# Altium schematic symbol library tm4cv006lib.SchLib: 203 symbols (part 1 of 5)
Pins are listed as number, name and electrical type; pins without a type are passive.

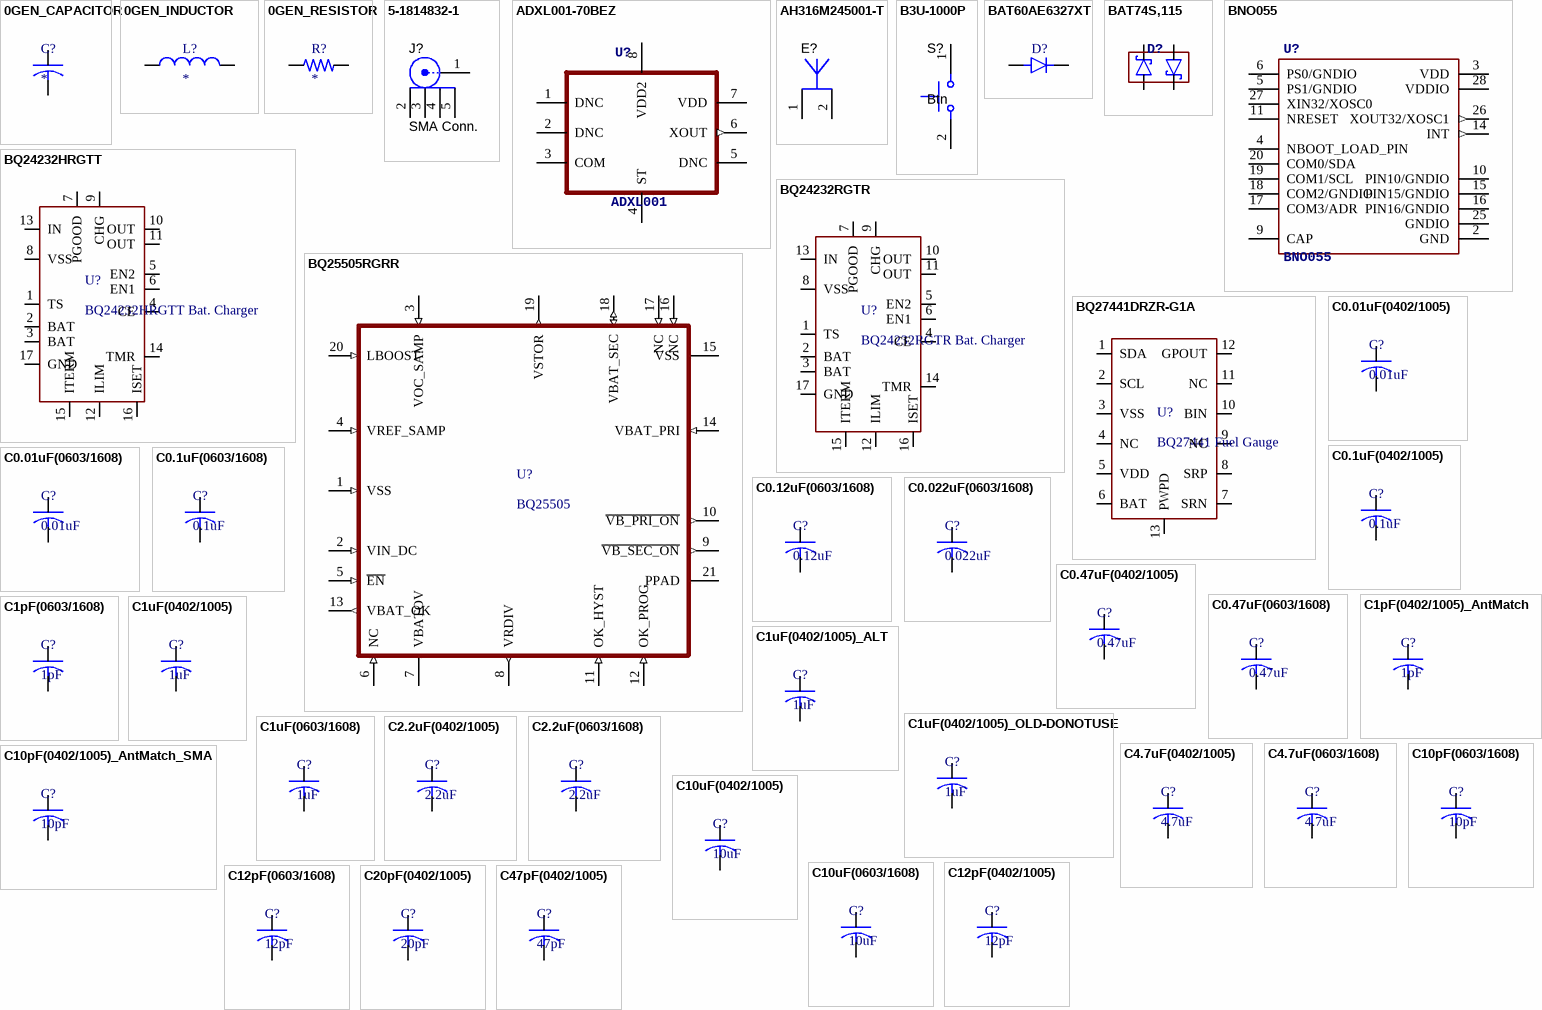
[diagram p0: symbols 0GEN_CAPACITOR to C47pF(0402/1005)]

## 0GEN_CAPACITOR
designator C?
Capacitor
footprint C0603_1608 (Chip Capacitor, 2-Leads, Body 1.60x0.80mm, IPC Medium Density)
pins: 1, 2

## 0GEN_INDUCTOR
designator L?
Inductor
footprint L1008_2520 (Chip Inductor, 2-Leads, Body 2.50x2.00mm, IPC Medium Density)
pins: 1, 2

## 0GEN_RESISTOR
designator R?
Resistor
footprint R0603_1608 (Chip Resistor, 2-Leads, Body 1.60x0.80mm, IPC Medium Density)
pins: 1, 2

## 5-1814832-1
designator J?, comment SMA Conn.
SMA Straight PCB Socket Die Cast, 50 Ohm, TH; Manufacturer: TE Connectivity; Manufacturer Part Number: 5-1814832-1; Body Material: Zinc Alloy; Gender: Jack; Impedance: 50 Ohms; Body Finish: Nickel; Maximum Frequency: 4 GHz; Polarity: Standard; Supplier 1: Mouser; Supplier Part Number 1: 571-5-1814832-1; RoHS: RoHS Compliant By Exemption; Category: RF Connectors / Coaxial Connectors; Stock 1: 12172; Pricing 1: 1=1.64, 50=1.59, 100=1.46, 500=1.29, 1000=1.16 (USD); Body Style: Straight; Contact Plating: Gold; Mounting Type: PCB; Operating Temperature Range: - 55 C to + 85 C; Orientation: Vertical; Packaging: Bulk; Product: PCB Receptacles; Termination Style: Solder; Brand: TE Connectivity; Contact Material: Phosphor Bronze; RF Series: SMA; Product Category: SMA Connectors; Standard Pack Qty: 50; RoHS - Mouser: E; Minimum Order Quantity: 1; Reeling: False; ComponentLink1URL: http://www.mouser.com/ds/2/418/NG_CD_1814832_B1-659884.pdf; ComponentLink1Description: http://www.mouser.com/ds/2/418/NG_CD_1814832_B1-659884.pdf
footprint TE_5-1814832-1
pins: 1, 2, 3, 4, 5

## ADXL001-70BEZ
designator U?, comment ADXL001
ADXL001 Accelerometer; Manufacturer: Analog Devices; Manufacturer Part Number: ADXL001-70BEZ; Output Type: Analog; Sensitivity: 24.2 mV/g; Acceleration: 70 g; Sensing Axis: X; Sensor Type: 1-axis; Operating Supply Current: 4.5 uA; Supply Voltage - Max: 6 V; Supply Voltage - Min: 3.135 V; Supplier 1: Mouser; RoHS: RoHS Compliant By Exemption; Category: Accelerometers; Stock 1: 249; Pricing 1: 1=31.71, 5=30.29, 10=29.33, 25=26.95, 50=25.84, 100=24.95, 250=22.92, 500=21.10 (USD); Package / Case: LCC-8; Packaging: Tube; Resolution: -; Series: ADXL001; Brand: Analog Devices; Interface Type: -; Mounting Style: SMD/SMT; Maximum Operating Temperature: + 125 C; Minimum Operating Temperature: - 40 C; Standard Pack Qty: 95; RoHS - Mouser: E; Minimum Order Quantity: 1; Reeling: False; ComponentLink1URL: http://www.mouser.com/ds/2/609/ADXL001-246304.pdf; ComponentLink1Description: http://www.mouser.com/ds/2/609/ADXL001-246304.pdf; Supplier Part Number 1: 584-ADXL001-70BEZ
footprint ADXL001-70BEZ
pins: 1 DNC, 2 DNC, 3 COM, 4 ST, 5 DNC, 6 XOUT (out), 7 VDD (power), 8 VDD2 (power)

## AH316M245001-T
designator E?
Ant.; Manufacturer: Taiyo Yuden; Manufacturer Part Number: AH316M245001-T; Frequency: 2450 MHz; Frequency Range: 2400 MHz to 2500 MHz; Impedance: 50 Ohms; Gain: 1.9 dBi; Supplier 1: Mouser; Supplier Part Number 1: 963-AH316M245001-T; RoHS: RoHS Compliant; Category: Antennas; Stock 1: 8427; Pricing 1: 1=1.99, 10=1.44, 100=0.955, 500=0.856, 1000=0.780, 3000=0.527, 9000=0.498, 24000=0.488 (USD); Height: 0.5 mm; Length: 3.2 mm; Packaging: Reel; Product: PCB Antenna; Series: AH; Technology: Multilayer Chip Antenna; Termination Style: SMD/SMT; Width: 1.6 mm; Brand: Taiyo Yuden; Standard Pack Qty: 3000; RoHS - Mouser: Y; Minimum Order Quantity: 1; Reeling: True; ComponentLink1URL: http://www.mouser.com/ds/2/396/chipantenna01_e-587795.pdf; ComponentLink1Description: http://www.mouser.com/ds/2/396/chipantenna01_e-587795.pdf
footprint TAYO_AH316M
pins: 1, 2

## B3U-1000P
designator S?, comment Btn
Switch; Manufacturer: Omron Electronics; Manufacturer Part Number: B3U-1000P; Contact Form: SPST; Current Rating: 50 mA; Operating Force: 1.5 N; Voltage Rating DC: 12 VDC; Ground Terminal: No; Supplier 1: Mouser; Supplier Part Number 1: 653-B3U-1000P; RoHS: RoHS Compliant; Category: Tactile Switches; Stock 1: 31935; Pricing 1: 1=1.03, 25=0.922, 50=0.824, 100=0.746, 250=0.704, 500=0.618, 1000=0.552, 2000=0.536, 3500=0.515 (USD); Height: 1.2 mm; Length: 2.5 mm; Operating Temperature Range: - 25 C to + 70 C; Packaging: Reel; Series: B3U; Termination Style: Leadless; Width: 3 mm; Brand: Omron Electronics; Product Category: Switches -  Mechanical Keyswitches/Tactile; Standard Pack Qty: 3500; RoHS - Mouser: Y; Minimum Order Quantity: 1; Reeling: True; ComponentLink1URL: http://www.mouser.com/ds/2/307/en-b3u-3615.pdf; ComponentLink1Description: http://www.mouser.com/ds/2/307/en-b3u-3615.pdf
footprint SW_B3U-1000P
pins: 1, 2

## BAT60AE6327XT
designator D?  (value not drawn)
Schottky Diode (Inductor Freewheel); Manufacturer: Infineon Technologies; Configuration: Single; If - Forward Current: 3 A; Ifsm - Forward Surge Current: 5 A; Ir - Reverse Current: 18 mA; Pd - Power Dissipation: 1.35 W; Vf - Forward Voltage: 0.37 V; Vrrm - Repetitive Reverse Voltage: 10 V; Supplier 1: Mouser; Supplier Part Number 1: 726-BAT60AE6327XT; Manufacturer Part Number: BAT60AE6327XT; RoHS: RoHS Compliant; Category: Schottky Diodes & Rectifiers; Stock 1: 9015; Pricing 1: 1=0.490, 10=0.290, 100=0.137, 1000=0.105, 3000=0.087, 24000=0.074, 45000=0.066, 99000=0.062 (USD); Operating Temperature Range: - 55 C to + 85 C; Package / Case: SOD-323; Packaging: Reel; Product: Schottky Diodes; Technology: Si; Termination Style: Solder; Brand: Infineon Technologies; Mounting Style: SMD/SMT; Maximum Operating Temperature: + 85 C; Minimum Operating Temperature: - 55 C; Standard Pack Qty: 3000; RoHS - Mouser: Y; Minimum Order Quantity: 1; Reeling: True; ComponentLink1URL: http://www.mouser.com/ds/2/196/bat60aseries-89086.pdf; ComponentLink1Description: http://www.mouser.com/ds/2/196/bat60aseries-89086.pdf
footprint BAT60AE6327XT (SODFL, 2-Leads, Body 1.30x2.50mm, IPC Medium Density)
pins: 1 K, 2 A

## BAT74S,115
designator D?  (value not drawn)
Dual Schottky Barrier Diode; Manufacturer: NXP Semiconductors; Configuration: Dual Anti-Parallel; Type: Schottky Diode; If - Forward Current: 0.2 A; Ifsm - Forward Surge Current: 0.6 A; Ir - Reverse Current: 2 uA; Pd - Power Dissipation: 240 mW; trr - Reverse Recovery time: 5 ns; Vf - Forward Voltage: 240 mV; Vrrm - Repetitive Reverse Voltage: 30 V; Supplier 1: Mouser; Supplier Part Number 1: 771-BATS115; Manufacturer Part Number: BAT74S,115; RoHS: RoHS Compliant; Category: Schottky Diodes & Rectifiers; Stock 1: 316; Pricing 1: 1=0.460, 10=0.302, 100=0.129, 1000=0.099, 3000=0.075, 9000=0.067, 24000=0.063, 45000=0.056, 99000=0.053 (USD); Height: 1 mm; Length: 2.2 mm; Operating Temperature Range: + 125 C; Package / Case: SOT-363; Packaging: Reel; Product: Schottky Diodes; Technology: Si; Termination Style: SMD/SMT; Width: 1.35 mm; Brand: NXP Semiconductors; Mounting Style: SMD/SMT; Maximum Operating Temperature: + 125 C; Minimum Operating Temperature: - 65 C; Standard Pack Qty: 3000; RoHS - Mouser: Y; Minimum Order Quantity: 1; Reeling: True; ComponentLink1URL: http://www.mouser.com/ds/2/302/BAT74S-840027.pdf; ComponentLink1Description: http://www.mouser.com/ds/2/302/BAT74S-840027.pdf
footprint BAT74S,115 (SOT23, 6-Leads, Body 2.00x2.10mm, Pitch 0.65mm, IPC Medium Density)
pins: 1 A1, 3 K2, 4 A2, 6 K1

## BNO055
designator U?
Bosch MEMS Sensor; Manufacturer: Bosch Sensortec; Bandwidth: 1000 Hz; Output Type: Digital; Range: 125 deg/s to 2000 deg/s; Resolution: 16 bit; Sensitivity: 1 LSB/mg; Acceleration: 2 g, 4 g, 8 g, 16 g; Interface Type: HID-I2C, I2C, UART; Sensing Axis: X, Y, Z; Sensor Type: 9-axis; Operating Supply Current: 13.7 mA; Supply Voltage - Max: 3.6 V; Supply Voltage - Min: 2.4 V; Product Status: New at Mouser; Supplier 1: Mouser; Supplier Part Number 1: 262-BNO055; Manufacturer Part Number: BNO055; RoHS: RoHS Compliant; Category: IMUs - Inertial Measurement Units; Stock 1: 477; Pricing 1: 1=10.99, 5=10.47, 10=10.27, 25=9.50, 50=9.38, 100=8.91, 250=8.31, 500=7.90, 1000=7.27, 4000=7.27 (USD); Package / Case: LGA-28; Packaging: Reel; Brand: Bosch Sensortec; Maximum Operating Temperature: + 85 C; Minimum Operating Temperature: - 40 C; RoHS - Mouser: Y; Minimum Order Quantity: 1; Reeling: True; ComponentLink1URL: http://www.mouser.com/ds/2/621/BST_BNO055_DS000_12~1-531239.pdf; ComponentLink1Description: http://www.mouser.com/ds/2/621/BST_BNO055_DS000_12~1-531239.pdf
footprint BNO055 (Bosch MEMS Sensor, QFN, 28-Leads, Body 5.20x3.80mm, Pitch 0.50mm, IPC Medium Density)
pins: 2 GND (power), 3 VDD (power), 4 NBOOT_LOAD_PIN, 5 PS1/GNDIO, 6 PS0/GNDIO, 9 CAP, 10 PIN10/GNDIO (power), 11 NRESET, 14 INT (out), 15 PIN15/GNDIO (power), 16 PIN16/GNDIO (power), 17 COM3/ADR, 18 COM2/GNDIO, 19 COM1/SCL, 20 COM0/SDA, 25 GNDIO (power), 26 XOUT32/XOSC1 (out), 27 XIN32/XOSC0, 28 VDDIO (power)

## BQ24232HRGTT
designator U?, comment BQ24232HRGTT Bat. Charger
BQ24232HRGTT; Manufacturer: Texas Instruments; Output Current: 500 mA; Output Voltage: 4.35 V; Battery Type: Li-Ion, Li-Polymer; Operating Supply Voltage: 4.35 V to 28 V; Product Status: New Product; Supplier 1: Mouser; Supplier Part Number 1: 595-BQ24232HRGTT; Manufacturer Part Number: BQ24232HRGTT; RoHS: RoHS Compliant; Category: Battery Management; Stock 1: 374; Pricing 1: 1=3.14, 10=2.82, 25=2.63, 50=2.49, 100=2.31, 250=2.19, 500=1.97, 1000=1.48 (USD); Package / Case: VQFN-16; Packaging: Reel; Product: Charge Management; Series: BQ24232H; Brand: Texas Instruments; Mounting Style: SMD/SMT; Maximum Operating Temperature: + 85 C; Minimum Operating Temperature: - 40 C; Operating Supply Current: 500 mA; Standard Pack Qty: 250; RoHS - Mouser: Y; Minimum Order Quantity: 1; Reeling: True; ComponentLink1URL: http://www.mouser.com/ds/2/405/bq24232h-556661.pdf; ComponentLink1Description: http://www.mouser.com/ds/2/405/bq24232h-556661.pdf
footprint BQ24232HRGTT (QFN, 16-Leads, Body 3.00x3.00mm, Pitch 0.50mm, Thermal Pad 1.66x1.66mm, IPC Medium Density)
pins: 1 TS, 2 BAT, 3 BAT, 4 CE, 5 EN2, 6 EN1, 7 PGOOD, 8 VSS, 9 CHG, 10 OUT, 11 OUT, 12 ILIM, 13 IN, 14 TMR, 15 ITERM, 16 ISET, 17 GND

## BQ24232RGTR
designator U?, comment BQ24232RGTR Bat. Charger
Manufacturer: Texas Instruments; Battery Chemistry: Lithium-Ion; Number of Cells: 1; Current - Charging: Constant - Programmable; Programmable Features: Current, Timer; Fault Protection: Over Temperature, Over Voltage, Reverse Current, Short Circuit; Charge Current - Max: 500mA; Battery Pack Voltage: 4.2V; Voltage - Supply (Max): 10.2V; Interface: USB; Supplier 1: Digi-Key; Supplier Part Number 1: 296-41207-1-ND; Manufacturer Part Number: BQ24232RGTR; RoHS: RoHS Compliant; Category: Integrated Circuits (ICs); Stock 1: 1928; Pricing 1: 1=2.74, 10=2.457, 100=1.971, 500=1.62, 1000=1.125 (USD); Packaging: Cut Tape (CT); Part Status: Active; Operating Temperature: -40°C ~ 125°C (TJ); Package / Case: 16-VFQFN Exposed Pad; Supplier Device Package: 16-QFN (3x3); ComponentLink1URL: http://www.ti.com/lit/ds/symlink/bq24230.pdf; ComponentLink1Description: http://www.ti.com/lit/ds/symlink/bq24230.pdf
footprint BQ24232RGTR (QFN, 16-Leads, Body 3.00x3.00mm, Pitch 0.50mm, Thermal Pad 1.66x1.66mm, IPC Medium Density)
pins: 1 TS, 2 BAT, 3 BAT, 4 CE, 5 EN2, 6 EN1, 7 PGOOD, 8 VSS, 9 CHG, 10 OUT, 11 OUT, 12 ILIM, 13 IN, 14 TMR, 15 ITERM, 16 ISET, 17 GND

## BQ25505RGRR
designator U?, comment BQ25505
Energy Harvester; Manufacturer: Texas Instruments; Manufacturer Part Number: BQ25505RGRR; Output Current: 100 mA; Output Voltage: Adjustable; Battery Type: Li-Ion, Li-Polymer, LiFePO4, SuperCap; Operating Supply Voltage: 120 mV to 4.0 V; Supplier 1: Mouser; RoHS: RoHS Compliant; Category: Battery Management; Stock 1: 3000; Pricing 1: 1=5.72, 10=5.14, 25=4.79, 50=4.53, 100=4.21, 250=3.99, 500=3.58, 1000=2.70, 3000=2.70 (USD); Package / Case: VQFN-20; Packaging: Reel; Series: BQ25505; Brand: Texas Instruments; Standard Pack Qty: 3000; RoHS - Mouser: Y; Minimum Order Quantity: 1; Reeling: True; ComponentLink1URL: http://www.mouser.com/ds/2/405/bq25505-556989.pdf; ComponentLink1Description: http://www.mouser.com/ds/2/405/bq25505-556989.pdf; Supplier Part Number 1: 595-BQ25505RGRR
footprint BQ25505RGRR (Energy Harvester, PQFN, 20-Leads, Body 3.50x3.50mm, Pitch 0.50mm, Thermal Pad 2.05x2.05mm, IPC Medium Density)
pins: 1 VSS (in), 2 VIN_DC (in), 3 VOC_SAMP (in), 4 VREF_SAMP (in), 5 ~{EN} (in), 6 NC (in), 7 VBATOV, 8 VRDIV (out), 9 ~{VB_SEC_ON} (out), 10 ~{VB_PRI_ON} (out), 11 OK_HYST (in), 12 OK_PROG (in), 13 VBAT_OK (out), 14 VBAT_PRI (in), 15 VSS, 16 NC (in), 17 NC (in), 18 VBAT_SEC (io), 19 VSTOR (out), 20 LBOOST (in), 21 PPAD

## BQ27441DRZR-G1A
designator U?, comment BQ27441 Fuel Gauge
Fuel Gauge, System-Side Impedance Track; Manufacturer: Texas Instruments; Manufacturer Part Number: BQ27441DRZR-G1A; Capacity: 200 mAh to 8000 mAh; Supplier 1: Mouser; Supplier Part Number 1: 595-BQ27441DRZR-G1A; RoHS: RoHS Compliant; Category: Battery Management; Stock 1: 2429; Pricing 1: 1=2.74, 10=2.46, 25=2.29, 50=2.17, 100=2.01, 250=1.91, 500=1.71, 1000=1.29, 3000=1.29 (USD); Package / Case: VSON-12; Packaging: Reel; Series: BQ27441-G1; Brand: Texas Instruments; Maximum Operating Temperature: + 85 C; Minimum Operating Temperature: - 40 C; Standard Pack Qty: 3000; RoHS - Mouser: Y; Minimum Order Quantity: 1; Reeling: True
footprint BQ27441DRZR-G1A_Fixed (SON, 12-Leads, Body 2.50x4.00mm, Pitch 0.40mm, Thermal Pad 2.45x0.99mm, IPC Medium Density)
pins: 1 SDA, 2 SCL, 3 VSS, 4 NC, 5 VDD, 6 BAT, 7 SRN, 8 SRP, 9 NC, 10 BIN, 11 NC, 12 GPOUT, 13 PWPD

## C0.01uF(0402/1005)
designator C?, comment 0.01uF
0.01uF Capacitor; Manufacturer: Murata Electronics North America; Manufacturer Part Number: GRM155R71E103JA01D; Capacitance: 10000pF; Tolerance: ±5%; Voltage - Rated: 25V; Temperature Coefficient: X7R; Voltage Rating: 25; Voltage Rating (DC): 25 V; Supplier 1: Digi-Key; Supplier Part Number 1: 490-6339-1-ND; RoHS: RoHS Compliant; Category: Capacitors; Stock 1: 679625; Pricing 1: 1=0.1, 10=0.012, 50=0.0066, 100=0.0056, 250=0.00456, 500=0.00388, 1000=0.00303, 5000=0.00253 (USD); Packaging: Cut Tape (CT); Part Status: Active; Operating Temperature: -55°C ~ 125°C; Features: -; Ratings: -; Applications: General Purpose; Mounting Type: Surface Mount, MLCC; Package / Case: 0402 (1005 Metric); Size / Dimension: 0.039" L x 0.020" W (1.00mm x 0.50mm); Height - Seated (Max): -; Thickness (Max): 0.022" (0.55mm); Lead Spacing: -; ComponentLink1URL: http://www.murata.com/~/media/webrenewal/support/library/catalog/products/capacitor/mlcc/c02e.ashx; ComponentLink1Description: http://www.murata.com/~/media/webrenewal/support/library/catalog/products/capacitor/mlcc/c02e.ashx; Supplier 2: Mouser; Supplier Part Number 2: 81-GRM155R71E103JA1D; Stock 2: 152455; Pricing 2: 1=0.1, 10=0.006, 50=0.006, 100=0.004, 1000=0.003, 10000=0.002 (USD); Mount: Surface Mount; Case/Package: 0402; Case Code (Metric): 1005; Case Code (Imperial): 0402; Min Operating Temperature: -55; Max Operating Temperature: 125; Type (Capacitors): X7R; Package Quantity: 10000; Length: 0.039; Height: 0.5; Width: 0.02; Radiation Hardening: No; ComponentLink2URL: https://datasheet.ciiva.com/6263/partnumbering-e-01-6263752.pdf; ComponentLink2Description: https://datasheet.ciiva.com/6263/partnumbering-e-01-6263752.pdf; ComponentLink3URL: https://datasheet.ciiva.com/6263/partnumbering-e-01-6263753.pdf; ComponentLink3Description: https://datasheet.ciiva.com/6263/partnumbering-e-01-6263753.pdf; ComponentLink4URL: https://datasheet.ciiva.com/11619/c02e-11619961.pdf; ComponentLink4Description: https://datasheet.ciiva.com/11619/c02e-11619961.pdf; ComponentLink5URL: https://datasheet.ciiva.com/6263/partnumbering-e-01-6263754.pdf; ComponentLink5Description: https://datasheet.ciiva.com/6263/partnumbering-e-01-6263754.pdf; ComponentLink6URL: https://datasheet.ciiva.com/17455/c02e-17455835.pdf; ComponentLink6Description: https://datasheet.ciiva.com/17455/c02e-17455835.pdf; ComponentLink7URL: https://datasheet.ciiva.com/18184/getdatasheetpartid-496128-18184687.pdf; ComponentLink7Description: https://datasheet.ciiva.com/18184/getdatasheetpartid-496128-18184687.pdf; Dielectric: X7R
footprint C0402_1005 (Chip Capacitor, 2-Leads, Body 1.00x0.50mm, IPC Medium Density)
pins: 1, 2

## C0.1uF(0402/1005)
designator C?, comment 0.1uF
0.1uF (100nF) Capacitor; Manufacturer: Murata; Manufacturer Part Number: GRM155R71E104KE14D; Dielectric Material: Ceramic; Capacitance: 100; Tolerance: 10; Voltage Rating: 25; Dielectric: X7R; Supplier 1: Mouser; Supplier Part Number 1: 81-GRM155R71E104KE4D; Stock 1: 1657011; Pricing 1: 1=0.1, 10=0.014, 50=0.014, 100=0.009, 1000=0.006, 10000=0.004 (USD); Case/Package: 0402; Weight: 0.000212; Case Code (Metric): 1005; Case Code (Imperial): 0402; Min Operating Temperature: -55; Max Operating Temperature: 125; Packaging: Tape and Reel; Voltage: 25; Termination: SMD/SMT; Composition: Ceramic; Voltage Rating (DC): 25; Package Quantity: 10000; Length: 1; Height: 0.5; Width: 0.02; Thickness: 0.022; Depth: 0.5; REACH SVHC: Unknown; Lead Free: Lead Free; ComponentLink1URL: http://uk.rs-online.com/webdocs/144c/0900766b8144c113.pdf; ComponentLink1Description: http://uk.rs-online.com/webdocs/144c/0900766b8144c113.pdf; ComponentLink2URL: http://components.arrow.com/part/dataview/0323_06361249; ComponentLink2Description: http://components.arrow.com/part/dataview/0323_06361249; ComponentLink3URL: http://www.mouser.com/ds/2/281/c02e-2905.pdf; ComponentLink3Description: http://www.mouser.com/ds/2/281/c02e-2905.pdf; ComponentLink4URL: http://psearch.en.murata.com/capacitor/product/GRM155R71E104KE14%23.pdf; ComponentLink4Description: http://psearch.en.murata.com/capacitor/product/GRM155R71E104KE14%23.pdf; ComponentLink5URL: http://www.farnell.com/datasheets/2048008.pdf; ComponentLink5Description: http://www.farnell.com/datasheets/2048008.pdf; Supplier 2: Digi-Key; Supplier Part Number 2: 490-10698-6-ND; Supplier 3: Digi-Key; Supplier Part Number 3: 490-14603-1-ND
footprint C0402_1005 (Chip Capacitor, 2-Leads, Body 1.00x0.50mm, IPC Medium Density)
pins: 1, 2

## C0.01uF(0603/1608)
designator C?, comment 0.01uF
0.01uF Capacitor; Manufacturer: Murata Electronics; Manufacturer Part Number: GRM188R71H103KA01J; Tolerance: 10 %; Type: General Purpose MLCC; Voltage Rating DC: 50 VDC; Dielectric: X7R; Supplier 1: Mouser; Supplier Part Number 1: 81-GRM39X103K50J; RoHS: RoHS Compliant; Category: Multilayer Ceramic Capacitors MLCC - SMD/SMT; Stock 1: 164273; Pricing 1: 1=0.100, 10=0.010, 100=0.006, 1000=0.005, 10000=0.005 (USD); Capacitance: 0.01 uF; Height: 0.8 mm; Length: 1.6 mm; Package / Case: 0603 (1608 metric); Packaging: Reel; Product: General Type MLCCs; Series: GRM; Termination Style: SMD/SMT; Width: 0.8 mm; Brand: Murata Electronics; Case Code - in: 0603; Case Code - mm: 1608; Maximum Operating Temperature: + 125 C; Minimum Operating Temperature: - 55 C; Product Category: Low & Medium Capacitance SMD Ceramic Chip Capacitors; Standard Pack Qty: 10000; RoHS - Mouser: Y; Minimum Order Quantity: 1; Reeling: True; ComponentLink1URL: http://www.mouser.com/ds/2/281/c02e-2905.pdf; ComponentLink1Description: http://www.mouser.com/ds/2/281/c02e-2905.pdf
footprint C0603_1608 (Chip Capacitor, 2-Leads, Body 1.60x0.80mm, IPC Medium Density)
pins: 1, 2

## C0.1uF(0603/1608)
designator C?, comment 0.1uF
0.1uF Capacitor; Manufacturer: Yageo; Manufacturer Part Number: CC0603JRX7R8BB104; Tolerance: 5 %; Type: Multilayer Ceramic Chip Capacitor; Voltage Rating DC: 25 V; Dielectric: X7R; Supplier 1: Mouser; Supplier Part Number 1: 603-CC603JRX7R8BB104; RoHS: RoHS Compliant By Exemption; Category: Multilayer Ceramic Capacitors MLCC - SMD/SMT; Stock 1: 55757; Pricing 1: 1=0.100, 10=0.021, 100=0.010, 1000=0.008, 4000=0.005, 48000=0.004 (USD); Capacitance: 0.1 uF; Length: 1.6 mm; Package / Case: 0603 (1608 metric); Packaging: Reel; Product: General Type MLCCs; Termination Style: SMD/SMT; Width: 0.8 mm; Brand: Yageo; Case Code - in: 0603; Case Code - mm: 1608; Maximum Operating Temperature: + 125 C; Minimum Operating Temperature: - 55 C; RoHS - Mouser: E; Minimum Order Quantity: 1; Reeling: True; ComponentLink1URL: http://www.mouser.com/ds/2/447/UPY-GPHC_X7R_6.3V-to-50V_10-595240.pdf; ComponentLink1Description: http://www.mouser.com/ds/2/447/UPY-GPHC_X7R_6.3V-to-50V_10-595240.pdf
footprint C0603_1608 (Chip Capacitor, 2-Leads, Body 1.60x0.80mm, IPC Medium Density)
pins: 1, 2

## C0.12uF(0603/1608)
designator C?, comment 0.12uF
0.12uF Capacitor; Manufacturer: Kemet; Manufacturer Part Number: C0603C124K4RACTU; Tolerance: 10 %; Type: SMD MLCC X7R 6.3 - 250 VDC Commerical Grade; Voltage Rating DC: 16 VDC; Class: Class 2; Dielectric: X7R; Supplier 1: Mouser; Supplier Part Number 1: 80-C0603C124K4R; RoHS: RoHS Compliant; Category: Multilayer Ceramic Capacitors MLCC - SMD/SMT; Stock 1: 17987; Pricing 1: 1=0.250, 10=0.118, 100=0.070, 1000=0.062, 4000=0.049, 8000=0.044, 24000=0.042, 48000=0.039, 100000=0.035 (USD); Capacitance: 0.12 uF; Height: -; Length: 1.6 mm; Package / Case: 0603 (1608 metric); Packaging: Reel; Product: General Type MLCCs; Series: C0603C; Termination Style: SMD/SMT; Voltage Rating AC: -; Width: 0.8 mm; Brand: Kemet; Case Code - in: 0603; Case Code - mm: 1608; Maximum Operating Temperature: + 125 C; Minimum Operating Temperature: - 55 C; Product Category: 0603 SMD Ceramic Chip Capacitors; Standard Pack Qty: 4000; RoHS - Mouser: Y; Minimum Order Quantity: 1; Reeling: True; ComponentLink1URL: http://www.mouser.com/ds/2/212/KEM_C1002_X7R_SMD-357932.pdf; ComponentLink1Description: http://www.mouser.com/ds/2/212/KEM_C1002_X7R_SMD-357932.pdf
footprint C0603_1608 (Chip Capacitor, 2-Leads, Body 1.60x0.80mm, IPC Medium Density)
pins: 1, 2

## C0.022uF(0603/1608)
designator C?, comment 0.022uF
0.022uF Capacitor; Manufacturer: Kemet; Manufacturer Part Number: C0603C223K5RACTU; Tolerance: 10 %; Type: SMD MLCC X7R 6.3 - 250 VDC Commerical Grade; Voltage Rating DC: 50 VDC; Class: Class 2; Dielectric: X7R; Supplier 1: Mouser; RoHS: RoHS Compliant; Category: Multilayer Ceramic Capacitors MLCC - SMD/SMT; Stock 1: 45563; Pricing 1: 1=0.100, 10=0.024, 100=0.015, 1000=0.012, 4000=0.009, 8000=0.008, 48000=0.006, 100000=0.004 (USD); Capacitance: 0.022 uF; Height: -; Length: 1.6 mm; Package / Case: 0603 (1608 metric); Packaging: Reel; Product: General Type MLCCs; Series: C0603C; Termination Style: SMD/SMT; Voltage Rating AC: -; Width: 0.8 mm; Brand: Kemet; Case Code - in: 0603; Case Code - mm: 1608; Maximum Operating Temperature: + 125 C; Minimum Operating Temperature: - 55 C; Product Category: 0603 SMD Ceramic Chip Capacitors; Standard Pack Qty: 4000; RoHS - Mouser: Y; Minimum Order Quantity: 1; Reeling: True; ComponentLink1URL: http://www.mouser.com/ds/2/212/KEM_C1002_X7R_SMD-357932.pdf; ComponentLink1Description: http://www.mouser.com/ds/2/212/KEM_C1002_X7R_SMD-357932.pdf; Supplier Part Number 1: 80-C0603C223K5R
footprint C0603_1608 (Chip Capacitor, 2-Leads, Body 1.60x0.80mm, IPC Medium Density)
pins: 1, 2

## C0.47uF(0402/1005)
designator C?, comment 0.47uF
0.47uF Capacitor; Manufacturer: Murata Electronics; Manufacturer Part Number: GRM155R6YA474KE01D; Tolerance: 10 %; Type: Voltage and Temperature Derating Recommended Product; Voltage Rating DC: 35 VDC; Capacitance - nF: 470 nF; Capacitance - pF: 470000 pF; Dielectric: X5R; RoHS: RoHS Compliant; Category: Multilayer Ceramic Capacitors MLCC - SMD/SMT; Capacitance: 0.47 uF; Height: 0.5 mm; Length: 1 mm; Package / Case: 0402 (1005 metric); Packaging: Reel; Product: General Type MLCCs; Series: GRM; Termination Style: SMD/SMT; Width: 0.5 mm; Brand: Murata Electronics; Case Code - in: 0402; Case Code - mm: 1005; Maximum Operating Temperature: + 85 C; Minimum Operating Temperature: - 55 C; Standard Pack Qty: 10000; RoHS - Mouser: Y; Minimum Order Quantity: 1; Reeling: True; ComponentLink1URL: http://www.mouser.com/ds/2/281/c02e-2905.pdf; ComponentLink1Description: http://www.mouser.com/ds/2/281/c02e-2905.pdf; Supplier 1: Mouser; Supplier Part Number 1: 81-GRM155R6YA474KE1D; Stock 1: 58138; Pricing 1: 1=0.100, 10=0.033, 100=0.022, 500=0.019, 1000=0.015, 2500=0.012, 10000=0.010, 20000=0.009, 50000=0.008 (USD); Supplier 2: Digi-Key; Supplier Part Number 2: 490-10462-1-ND
footprint C0402_1005 (Chip Capacitor, 2-Leads, Body 1.00x0.50mm, IPC Medium Density)
pins: 1, 2

## C0.47uF(0603/1608)
designator C?, comment 0.47uF
0.47uF Capacitor; Manufacturer: Yageo; Manufacturer Part Number: CC0603KRX5R7BB474; Tolerance: 10 %; Type: Multilayer Ceramic Chip Capacitor; Voltage Rating DC: 16 VDC; Dielectric: X5R; Supplier 1: Mouser; Supplier Part Number 1: 603-CC603KRX5R7BB474; RoHS: RoHS Compliant By Exemption; Category: Multilayer Ceramic Capacitors MLCC - SMD/SMT; Stock 1: 19723; Pricing 1: 1=0.100, 10=0.035, 100=0.021, 1000=0.015, 4000=0.015, 8000=0.014, 24000=0.013, 48000=0.011 (USD); Capacitance: 0.47 uF; Height: 0.8 mm; Length: 1.6 mm; Package / Case: 0603 (1608 metric); Packaging: Reel; Product: General Type MLCCs; Termination Style: SMD/SMT; Width: 0.8 mm; Brand: Yageo; Case Code - in: 0603; Case Code - mm: 1608; Maximum Operating Temperature: + 85 C; Minimum Operating Temperature: - 55 C; Standard Pack Qty: 4000; RoHS - Mouser: E; Minimum Order Quantity: 1; Reeling: True; ComponentLink1URL: http://www.mouser.com/ds/2/447/UPY-GPHC_X5R_4V-to-50V_14_0717-202131.pdf; ComponentLink1Description: http://www.mouser.com/ds/2/447/UPY-GPHC_X5R_4V-to-50V_14_0717-202131.pdf
footprint C0603_1608 (Chip Capacitor, 2-Leads, Body 1.60x0.80mm, IPC Medium Density)
pins: 1, 2

## C1pF(0402/1005)_AntMatch
designator C?, comment 1pF
1pF Capacitor; Manufacturer: Murata Electronics; Manufacturer Part Number: GJM1555C1H1R0BB01D; Tolerance: 0.1 pF; Type: High Frequency High Q; Voltage Rating DC: 50 VDC; Dielectric: C0G (NP0); RoHS: RoHS Compliant; Category: Multilayer Ceramic Capacitors MLCC - SMD/SMT; Capacitance: 1 pF; Height: 0.5 mm; Length: 1 mm; Package / Case: 0402 (1005 metric); Packaging: Reel; Product: RF Microwave / High Q; Series: GJM; Termination Style: SMD/SMT; Width: 0.5 mm; Brand: Murata Electronics; Case Code - in: 0402; Case Code - mm: 1005; Maximum Operating Temperature: + 125 C; Minimum Operating Temperature: - 55 C; Standard Pack Qty: 10000; RoHS - Mouser: Y; Minimum Order Quantity: 1; Reeling: True; ComponentLink1URL: http://www.mouser.com/ds/2/281/c02e-2905.pdf; ComponentLink1Description: http://www.mouser.com/ds/2/281/c02e-2905.pdf; Supplier 1: Mouser; Supplier Part Number 1: 81-GJM1555C1H1R0BB01; Stock 1: 166015; Pricing 1: 1=0.150, 10=0.059, 100=0.041, 500=0.034, 1000=0.028, 2500=0.024, 10000=0.019, 20000=0.018, 50000=0.017 (USD)
footprint C0402_1005_AntMatch (Chip Capacitor, 2-Leads, Body 1.00x0.50mm, IPC Medium Density)
pins: 1, 2

## C1pF(0603/1608)
designator C?, comment 1pF
1pF Capacitor; Manufacturer: Vishay / Vitramon; Manufacturer Part Number: VJ0603A1R0BXJCW1BC; Tolerance: 0.1 pF; Type: Ultra Small Commodity MLCCs; Voltage Rating DC: 16 V; Dielectric: C0G (NP0); Supplier 1: Mouser; Supplier Part Number 1: 77-VJ0603A1R0BXJCBC; RoHS: RoHS Compliant; Category: Multilayer Ceramic Capacitors MLCC - SMD/SMT; Stock 1: 20699; Pricing 1: 1=0.100, 50=0.070, 100=0.052, 500=0.036, 1000=0.019, 4000=0.013, 8000=0.012, 12000=0.010, 20000=0.009 (USD); Capacitance: 1 pF; Height: 0.95 mm; Length: 1.6 mm; Package / Case: 0603 (1608 metric); Packaging: Reel; Product: General Type MLCCs; Series: VJ W1BC; Termination Style: SMD/SMT; Voltage Rating AC: -; Width: 0.8 mm; Brand: Vishay / Vitramon; Case Code - in: 0603; Case Code - mm: 1608; Maximum Operating Temperature: + 125 C; Minimum Operating Temperature: - 55 C; Product Category: Ceramic Chip Capacitors; Standard Pack Qty: 4000; RoHS - Mouser: Y; Minimum Order Quantity: 1; Reeling: True; ComponentLink1URL: http://www.mouser.com/ds/2/427/vjw1bcbascomseries-223529.pdf; ComponentLink1Description: http://www.mouser.com/ds/2/427/vjw1bcbascomseries-223529.pdf
footprint C0603_1608 (Chip Capacitor, 2-Leads, Body 1.60x0.80mm, IPC Medium Density)
pins: 1, 2

## C1uF(0402/1005)
designator C?, comment 1uF
1uF Capacitor; Manufacturer: Murata Electronics North America; Manufacturer Part Number: GRT155R61E105KE01D; Capacitance: 1µF; Tolerance: ±10%; Voltage - Rated: 25V; Temperature Coefficient: X5R; Supplier 1: Digi-Key; Supplier Part Number 1: 490-12263-1-ND; RoHS: RoHS Compliant; Category: Capacitors; Stock 1: 55126; Pricing 1: 1=0.11, 10=0.079, 100=0.0373, 500=0.02616, 1000=0.02166, 2500=0.02016, 5000=0.01844 (USD); Packaging: Cut Tape (CT); Part Status: Active; Operating Temperature: -55°C ~ 85°C; Features: Derating Recommended; Ratings: AEC-Q200; Applications: Automotive; Mounting Type: Surface Mount, MLCC; Package / Case: 0402 (1005 Metric); Size / Dimension: 0.039" L x 0.020" W (1.00mm x 0.50mm); Height - Seated (Max): -; Thickness (Max): 0.022" (0.55mm); Lead Spacing: -; Lead Style: -; ComponentLink1URL: http://search.murata.co.jp/Ceramy/image/img/A01X/G101/ENG/GRT155R61E105KE01-01.pdf; ComponentLink1Description: http://search.murata.co.jp/Ceramy/image/img/A01X/G101/ENG/GRT155R61E105KE01-01.pdf
footprint C0402_1005 (Chip Capacitor, 2-Leads, Body 1.00x0.50mm, IPC Medium Density)
pins: 1, 2

## C1uF(0402/1005)_ALT
designator C?, comment 1uF
1uF Capacitor; Manufacturer: Murata Electronics North America; Manufacturer Part Number: GRT155R61E105KE01D; Capacitance: 1µF; Tolerance: ±10%; Voltage - Rated: 25V; Temperature Coefficient: X5R; Supplier 1: Digi-Key; Supplier Part Number 1: 490-12263-1-ND; RoHS: RoHS Compliant; Category: Capacitors; Stock 1: 55126; Pricing 1: 1=0.11, 10=0.079, 100=0.0373, 500=0.02616, 1000=0.02166, 2500=0.02016, 5000=0.01844 (USD); Packaging: Cut Tape (CT); Part Status: Active; Operating Temperature: -55°C ~ 85°C; Features: Derating Recommended; Ratings: AEC-Q200; Applications: Automotive; Mounting Type: Surface Mount, MLCC; Package / Case: 0402 (1005 Metric); Size / Dimension: 0.039" L x 0.020" W (1.00mm x 0.50mm); Height - Seated (Max): -; Thickness (Max): 0.022" (0.55mm); Lead Spacing: -; Lead Style: -; ComponentLink1URL: http://search.murata.co.jp/Ceramy/image/img/A01X/G101/ENG/GRT155R61E105KE01-01.pdf; ComponentLink1Description: http://search.murata.co.jp/Ceramy/image/img/A01X/G101/ENG/GRT155R61E105KE01-01.pdf
footprint C0402_1005 (Chip Capacitor, 2-Leads, Body 1.00x0.50mm, IPC Medium Density)
pins: 1, 2

## C1uF(0402/1005)_OLD-DONOTUSE
designator C?, comment 1uF
1uF Capacitor; Manufacturer: Murata Electronics North America; Manufacturer Part Number: GRM155R61E105KA12D; Capacitance: 1µF; Tolerance: ±10%; Voltage - Rated: 25V; Temperature Coefficient: X5R; Supplier 1: Digi-Key; Supplier Part Number 1: 490-10017-1-ND; RoHS: RoHS Compliant; Category: Capacitors; Stock 1: 31253; Pricing 1: 1=0.1, 10=0.072, 50=0.0388, 100=0.0328, 250=0.0268, 500=0.02294, 1000=0.01788, 5000=0.0149 (USD); Packaging: Cut Tape (CT); Part Status: Active; Operating Temperature: -55°C ~ 85°C; Features: Derating Recommended; Ratings: -; Applications: General Purpose; Mounting Type: Surface Mount, MLCC; Package / Case: 0402 (1005 Metric); Size / Dimension: 0.039" L x 0.020" W (1.00mm x 0.50mm); Height - Seated (Max): -; Thickness (Max): 0.022" (0.55mm); Lead Spacing: -; Lead Style: -; ComponentLink1URL: http://www.murata.com/~/media/webrenewal/support/library/catalog/products/capacitor/mlcc/c02e.ashx; ComponentLink1Description: http://www.murata.com/~/media/webrenewal/support/library/catalog/products/capacitor/mlcc/c02e.ashx
footprint C0402_1005 (Chip Capacitor, 2-Leads, Body 1.00x0.50mm, IPC Medium Density)
pins: 1, 2

## C1uF(0603/1608)
designator C?, comment 1uF
1uF Capacitor; Manufacturer: Murata Electronics; Manufacturer Part Number: GRM188R61E105KA12D; Tolerance: 10 %; Type: General Purpose MLCC; Voltage Rating DC: 25 V; Dielectric: X5R; Supplier 1: Mouser; Supplier Part Number 1: 81-GRM188R61E105KA12; RoHS: RoHS Compliant; Category: Multilayer Ceramic Capacitors MLCC - SMD/SMT; Stock 1: 423226; Pricing 1: 1=0.100, 10=0.024, 100=0.015, 1000=0.012, 4000=0.011 (USD); Capacitance: 1 uF; Height: 0.8 mm; Length: 1.6 mm; Package / Case: 0603 (1608 metric); Packaging: Reel; Product: General Type MLCCs; Series: GRM; Termination Style: SMD/SMT; Width: 0.8 mm; Brand: Murata Electronics; Case Code - in: 0603; Case Code - mm: 1608; Maximum Operating Temperature: + 85 C; Minimum Operating Temperature: - 55 C; Product Category: High Capacitance SMD Ceramic Chip Capacitors; Standard Pack Qty: 4000; RoHS - Mouser: Y; Minimum Order Quantity: 1; Reeling: True; ComponentLink1URL: http://www.murata.com/products/catalog/pdf/c02e.pdf; ComponentLink1Description: http://www.murata.com/products/catalog/pdf/c02e.pdf
footprint C0603_1608 (Chip Capacitor, 2-Leads, Body 1.60x0.80mm, IPC Medium Density)
pins: 1, 2

## C2.2uF(0402/1005)
designator C?, comment 2.2uF
2.2uF Capacitor; Manufacturer: Murata Electronics; Manufacturer Part Number: GRM155C81E225KE11D; Tolerance: 10 %; Type: Chip Monolithic Ceramic Capacitor; Voltage Rating DC: 25 VDC; Capacitance - nF: 2200 nF; Dielectric: X6S; Product Status: New Product; Supplier 1: Mouser; Supplier Part Number 1: 81-GRM155C81E225KE1D; RoHS: RoHS Compliant; Category: Multilayer Ceramic Capacitors MLCC - SMD/SMT; Stock 1: 7101; Pricing 1: 1=0.220, 10=0.113, 100=0.064, 500=0.056, 1000=0.048, 2500=0.036, 10000=0.034, 20000=0.032, 50000=0.028 (USD); Capacitance: 2.2 uF; Height: 0.5 mm; Length: 1 mm; Package / Case: 0402 (1005 metric); Packaging: Reel; Product: General Type MLCCs; Series: GRM; Termination Style: SMD/SMT; Width: 0.5 mm; Brand: Murata Electronics; Case Code - in: 0402; Case Code - mm: 1005; Maximum Operating Temperature: + 105 C; Minimum Operating Temperature: - 55 C; Standard Pack Qty: 10000; Termination: -; RoHS - Mouser: Y; Minimum Order Quantity: 1; Reeling: True; ComponentLink1URL: http://www.mouser.com/ds/2/281/c02e-2905.pdf; ComponentLink1Description: http://www.mouser.com/ds/2/281/c02e-2905.pdf; Supplier 2: Digi-Key; Supplier Part Number 2: 490-13234-1-ND
footprint C0402_1005 (Chip Capacitor, 2-Leads, Body 1.00x0.50mm, IPC Medium Density)
pins: 1, 2

## C2.2uF(0603/1608)
designator C?, comment 2.2uF
2.2uF Capacitor; Manufacturer: Murata Electronics; Manufacturer Part Number: GRM188R61E225KA12D; Tolerance: 10 %; Type: General Purpose Ceramic Capacitors; Voltage Rating DC: 25 V; Class: Class 2; Dielectric: X5R; Product Status: New Product; Supplier 1: Mouser; Supplier Part Number 1: 81-GRM188R61E225KA2D; RoHS: RoHS Compliant; Category: Multilayer Ceramic Capacitors MLCC - SMD/SMT; Stock 1: 36880; Pricing 1: 1=0.140, 10=0.057, 100=0.033, 1000=0.027, 4000=0.022, 8000=0.019, 24000=0.018, 48000=0.016, 100000=0.014 (USD); Capacitance: 2.2 uF; Height: 0.8 mm; Length: 1.6 mm; Packaging: Reel; Product: General Type MLCCs; Series: GRM; Termination Style: SMD/SMT; Width: 0.8 mm; Brand: Murata Electronics; Case Code - in: 0603; Case Code - mm: 1608; Maximum Operating Temperature: + 85 C; Minimum Operating Temperature: - 55 C; RoHS - Mouser: Y; Minimum Order Quantity: 1; Reeling: True; ComponentLink1URL: http://www.murata.com/products/catalog/pdf/c02e.pdf; ComponentLink1Description: http://www.murata.com/products/catalog/pdf/c02e.pdf
footprint C0603_1608 (Chip Capacitor, 2-Leads, Body 1.60x0.80mm, IPC Medium Density)
pins: 1, 2

## C4.7uF(0402/1005)
designator C?, comment 4.7uF
4.7uF Capacitor; Manufacturer: TDK Corporation; Manufacturer Part Number: C1005X5R1A475K050BC; Capacitance: 4.7µF; Tolerance: ±10%; Voltage - Rated: 10V; Temperature Coefficient: X5R; Supplier 1: Digi-Key; Supplier Part Number 1: 445-13820-1-ND; RoHS: RoHS Compliant; Category: Capacitors; Stock 1: 276778; Pricing 1: 1=0.48, 10=0.424, 100=0.2121, 250=0.16968, 500=0.15454, 1000=0.13938, 5000=0.11514 (USD); Packaging: Cut Tape (CT); Part Status: Active; Operating Temperature: -55°C ~ 85°C; Features: Low ESL; Ratings: -; Applications: General Purpose; Failure Rate: -; Mounting Type: Surface Mount, MLCC; Package / Case: 0402 (1005 Metric); Size / Dimension: 0.039" L x 0.020" W (1.00mm x 0.50mm); Height - Seated (Max): -; Thickness (Max): 0.022" (0.55mm); Lead Spacing: -; Lead Style: -; ComponentLink1URL: https://product.tdk.com/info/en/catalog/datasheets/mlcc_commercial_general_en.pdf; ComponentLink1Description: https://product.tdk.com/info/en/catalog/datasheets/mlcc_commercial_general_en.pdf
footprint C0402_1005 (Chip Capacitor, 2-Leads, Body 1.00x0.50mm, IPC Medium Density)
pins: 1, 2

## C4.7uF(0603/1608)
designator C?, comment 4.7uF
4.7uF Capacitor; Manufacturer: Yageo; Manufacturer Part Number: CC0603KRX5R6BB475; Tolerance: 10 %; Type: Multilayer Ceramic Chip Capacitor; Voltage Rating DC: 10 V; Dielectric: X5R; Supplier 1: Mouser; Supplier Part Number 1: 603-CC603KRX5R6BB475; RoHS: RoHS Compliant; Category: Multilayer Ceramic Capacitors MLCC - SMD/SMT; Stock 1: 49070; Pricing 1: 1=0.150, 10=0.077, 100=0.034, 1000=0.028, 4000=0.021, 8000=0.020, 24000=0.018, 48000=0.017, 100000=0.014 (USD); Capacitance: 4.7 uF; Height: 0.8 mm; Length: 1.6 mm; Package / Case: 0603 (1608 metric); Packaging: Reel; Product: General Type MLCCs; Series: CC; Termination Style: SMD/SMT; Width: 0.8 mm; Brand: Yageo; Case Code - in: 0603; Case Code - mm: 1608; Maximum Operating Temperature: + 85 C; Minimum Operating Temperature: - 55 C; RoHS - Mouser: Y; Minimum Order Quantity: 1; Reeling: True; ComponentLink1URL: http://www.mouser.com/ds/2/447/UPY-GPHC_X5R_4V-to-50V_14_0717-202131.pdf; ComponentLink1Description: http://www.mouser.com/ds/2/447/UPY-GPHC_X5R_4V-to-50V_14_0717-202131.pdf
footprint C0603_1608 (Chip Capacitor, 2-Leads, Body 1.60x0.80mm, IPC Medium Density)
pins: 1, 2

## C10pF(0402/1005)_AntMatch_SMA
designator C?, comment 10pF
10pF Capacitor; Manufacturer: Murata Electronics; Manufacturer Part Number: GJM1555C1H100JB01D; Tolerance: 5 %; Type: High Frequency High Q; Voltage Rating DC: 50 VDC; Capacitance - nF: 0.01 nF; Capacitance - uF: 0.00001 uF; Dielectric: C0G (NP0); Qualification: Commercial; RoHS: RoHS Compliant; Category: Multilayer Ceramic Capacitors MLCC - SMD/SMT; Capacitance: 10 pF; Height: 0.5 mm; Length: 1 mm; Package / Case: 0402 (1005 metric); Packaging: Reel; Product: RF Microwave / High Q; Series: GJM; Termination Style: SMD/SMT; Width: 0.5 mm; Brand: Murata Electronics; Capacitance - pF: 10 pF; Case Code - in: 0402; Case Code - mm: 1005; Maximum Operating Temperature: + 125 C; Minimum Operating Temperature: - 55 C; Standard Pack Qty: 10000; RoHS - Mouser: Y; Minimum Order Quantity: 1; Reeling: True; ComponentLink1URL: http://www.mouser.com/ds/2/281/c02e-2905.pdf; ComponentLink1Description: http://www.mouser.com/ds/2/281/c02e-2905.pdf; Supplier 1: Mouser; Supplier Part Number 1: 81-GJM1555C1H100JB01; Stock 1: 46610; Pricing 1: 1=0.100, 10=0.032, 100=0.022, 500=0.019, 1000=0.015, 2500=0.012, 10000=0.010, 20000=0.009 (USD)
footprint C0402_1005_AntMatch (Chip Capacitor, 2-Leads, Body 1.00x0.50mm, IPC Medium Density)
pins: 1, 2

## C10pF(0603/1608)
designator C?, comment 10pF
10pF Capacitor; Manufacturer: Kemet; Manufacturer Part Number: C0603C100J5GACTU; Tolerance: 5 %; Type: SMD MLCC C0G 10 - 250 VDC Commercial Grade; Voltage Rating DC: 50 VDC; Class: Class 1; Dielectric: C0G (NP0); Supplier 1: Mouser; RoHS: RoHS Compliant; Category: Multilayer Ceramic Capacitors MLCC - SMD/SMT; Stock 1: 172982; Pricing 1: 1=0.100, 10=0.017, 100=0.010, 1000=0.008, 4000=0.006, 8000=0.005, 48000=0.004 (USD); Capacitance: 10 pF; Height: -; Length: 1.6 mm; Package / Case: 0603 (1608 metric); Packaging: Reel; Product: General Type MLCCs; Series: C0603C; Termination Style: SMD/SMT; Voltage Rating AC: -; Width: 0.8 mm; Brand: Kemet; Case Code - in: 0603; Case Code - mm: 1608; Maximum Operating Temperature: + 125 C; Minimum Operating Temperature: - 55 C; Product Category: 0603 SMD Ceramic Chip Capacitors; Standard Pack Qty: 4000; RoHS - Mouser: Y; Minimum Order Quantity: 1; Reeling: True; ComponentLink1URL: http://www.mouser.com/ds/2/212/KEM_C1003_C0G_SMD-356956.pdf; ComponentLink1Description: http://www.mouser.com/ds/2/212/KEM_C1003_C0G_SMD-356956.pdf; Supplier Part Number 1: 80-C0603C100J5G
footprint C0603_1608 (Chip Capacitor, 2-Leads, Body 1.60x0.80mm, IPC Medium Density)
pins: 1, 2

## C10uF(0402/1005)
designator C?, comment 10uF
10uF Capacitor; Manufacturer: Murata Electronics; Manufacturer Part Number: GRM155C80J106ME11D; Tolerance: 20 %; Type: Chip Monolithic Ceramic Capacitor; Voltage Rating DC: 6.3 VDC; Dielectric: X6S; Product Status: New Product; Supplier 1: Mouser; Supplier Part Number 1: 81-GRM155C80J106ME1D; RoHS: RoHS Compliant; Category: Multilayer Ceramic Capacitors MLCC - SMD/SMT; Stock 1: 101725; Pricing 1: 1=0.170, 10=0.070, 100=0.048, 500=0.041, 1000=0.033, 2500=0.024, 10000=0.023, 20000=0.022, 50000=0.018 (USD); Capacitance: 10 uF; Height: 0.5 mm; Length: 1 mm; Package / Case: 0402 (1005 metric); Packaging: Reel; Product: General Type MLCCs; Series: GRM; Termination Style: SMD/SMT; Width: 0.5 mm; Brand: Murata Electronics; Case Code - in: 0402; Case Code - mm: 1005; Maximum Operating Temperature: + 105 C; Minimum Operating Temperature: - 55 C; Standard Pack Qty: 10000; Termination: -; RoHS - Mouser: Y; Minimum Order Quantity: 1; Reeling: True; ComponentLink1URL: http://www.mouser.com/ds/2/281/c02e-2905.pdf; ComponentLink1Description: http://www.mouser.com/ds/2/281/c02e-2905.pdf; Supplier 2: Digi-Key; Supplier Part Number 2: 490-13233-1-ND
footprint C0402_1005 (Chip Capacitor, 2-Leads, Body 1.00x0.50mm, IPC Medium Density)
pins: 1, 2

## C10uF(0603/1608)
designator C?, comment 10uF
10uF Capacitor; Manufacturer: Murata Electronics; Manufacturer Part Number: GRM188R61A106KE69D; Tolerance: 10 %; Type: Voltage and Temperature Derating Recommended Product; Voltage Rating DC: 10 V; Dielectric: X5R; Product Status: New Product; Supplier 1: Mouser; Supplier Part Number 1: 81-GRM188R61A106KE9D; RoHS: RoHS Compliant; Category: Multilayer Ceramic Capacitors MLCC - SMD/SMT; Stock 1: 387189; Pricing 1: 1=0.200, 10=0.080, 100=0.047, 1000=0.038, 4000=0.030, 8000=0.027, 24000=0.025, 48000=0.022, 100000=0.019 (USD); Capacitance: 10 uF; Height: 0.8 mm; Length: 1.6 mm; Package / Case: 0603 (1608 metric); Packaging: Reel; Product: General Type MLCCs; Series: GRM; Termination Style: SMD/SMT; Width: 0.8 mm; Brand: Murata Electronics; Case Code - in: 0603; Case Code - mm: 1608; Maximum Operating Temperature: + 85 C; Minimum Operating Temperature: - 55 C; RoHS - Mouser: Y; Minimum Order Quantity: 1; Reeling: True; ComponentLink1URL: http://www.murata.com/products/catalog/pdf/c02e.pdf; ComponentLink1Description: http://www.murata.com/products/catalog/pdf/c02e.pdf
footprint C0603_1608 (Chip Capacitor, 2-Leads, Body 1.60x0.80mm, IPC Medium Density)
pins: 1, 2

## C12pF(0402/1005)
designator C?, comment 12pF
12pF Capacitor; Manufacturer: Murata Electronics; Manufacturer Part Number: GRM1555C1H120JA01D; Tolerance: 5 %; Type: General Purpose MLCC; Voltage Rating DC: 50 VDC; Dielectric: C0G (NP0); Supplier 1: Mouser; Supplier Part Number 1: 81-GRM1555C1H120JA1D; RoHS: RoHS Compliant; Category: Multilayer Ceramic Capacitors MLCC - SMD/SMT; Stock 1: 130512; Pricing 1: 1=0.100, 10=0.007, 100=0.005, 500=0.004, 1000=0.003, 10000=0.003 (USD); Capacitance: 12 pF; Height: 0.5 mm; Length: 1 mm; Package / Case: 0402 (1005 metric); Packaging: Reel; Product: General Type MLCCs; Series: GRM; Termination Style: SMD/SMT; Width: 0.5 mm; Brand: Murata Electronics; Case Code - in: 0402; Case Code - mm: 1005; Maximum Operating Temperature: + 125 C; Minimum Operating Temperature: - 55 C; Standard Pack Qty: 10000; RoHS - Mouser: Y; Minimum Order Quantity: 1; Reeling: True; ComponentLink1URL: http://www.mouser.com/ds/2/281/c02e-2905.pdf; ComponentLink1Description: http://www.mouser.com/ds/2/281/c02e-2905.pdf
footprint C0402_1005 (Chip Capacitor, 2-Leads, Body 1.00x0.50mm, IPC Medium Density)
pins: 1, 2

## C12pF(0603/1608)
designator C?, comment 12pF
12pF Capacitor; Manufacturer: Yageo; Manufacturer Part Number: CC0603JRNPO9BN120; Tolerance: 5 %; Type: Multilayer Ceramic Chip Capacitor; Voltage Rating DC: 50 V; Dielectric: C0G (NP0); Supplier 1: Mouser; Supplier Part Number 1: 603-CC603JRNPO9BN120; RoHS: RoHS Compliant By Exemption; Category: Multilayer Ceramic Capacitors MLCC - SMD/SMT; Stock 1: 33668; Pricing 1: 1=0.100, 10=0.022, 100=0.010, 1000=0.008, 4000=0.006, 8000=0.005, 100000=0.004 (USD); Capacitance: 12 pF; Length: 1.6 mm; Package / Case: 0603 (1608 metric); Packaging: Reel; Product: General Type MLCCs; Termination Style: SMD/SMT; Width: 0.8 mm; Brand: Yageo; Case Code - in: 0603; Case Code - mm: 1608; Maximum Operating Temperature: + 125 C; Minimum Operating Temperature: - 55 C; Standard Pack Qty: 4000; RoHS - Mouser: E; Minimum Order Quantity: 1; Reeling: True; ComponentLink1URL: http://www.mouser.com/ds/2/447/UPY-GP_NP0_16V-to-50V_8-3714.pdf; ComponentLink1Description: http://www.mouser.com/ds/2/447/UPY-GP_NP0_16V-to-50V_8-3714.pdf
footprint C0603_1608 (Chip Capacitor, 2-Leads, Body 1.60x0.80mm, IPC Medium Density)
pins: 1, 2

## C20pF(0402/1005)
designator C?, comment 20pF
20pF Capacitor; Manufacturer: Murata Electronics; Manufacturer Part Number: GRM1555C1H200GA01D; Tolerance: 2 %; Type: General Purpose MLCC; Voltage Rating DC: 50 VDC; Dielectric: C0G (NP0); Supplier 1: Mouser; Supplier Part Number 1: 81-GRM1555C1H200GA1D; RoHS: RoHS Compliant; Category: Multilayer Ceramic Capacitors MLCC - SMD/SMT; Stock 1: 26027; Pricing 1: 1=0.110, 10=0.043, 100=0.030, 500=0.025, 1000=0.020, 2500=0.016, 10000=0.014, 20000=0.012, 50000=0.011 (USD); Capacitance: 20 pF; Height: 0.5 mm; Length: 1 mm; Package / Case: 0402 (1005 metric); Packaging: Reel; Product: General Type MLCCs; Series: GRM; Termination Style: SMD/SMT; Width: 0.5 mm; Brand: Murata Electronics; Case Code - in: 0402; Case Code - mm: 1005; Maximum Operating Temperature: + 125 C; Minimum Operating Temperature: - 55 C; Standard Pack Qty: 10000; RoHS - Mouser: Y; Minimum Order Quantity: 1; Reeling: True; ComponentLink1URL: http://www.mouser.com/ds/2/281/c02e-2905.pdf; ComponentLink1Description: http://www.mouser.com/ds/2/281/c02e-2905.pdf
footprint C0402_1005 (Chip Capacitor, 2-Leads, Body 1.00x0.50mm, IPC Medium Density)
pins: 1, 2

## C47pF(0402/1005)
designator C?, comment 47pF
47pF Capacitor; Manufacturer: Wurth Electronics Inc; Manufacturer Part Number: 885012005059; Tolerance: ±5%; Voltage - Rated: 50V; Temperature Coefficient: C0G, NP0; Supplier 1: Digi-Key; Supplier Part Number 1: 732-7473-1-ND; RoHS: RoHS Compliant; Category: Capacitors; Stock 1: 9998; Pricing 1: 1=0.1, 50=0.06, 100=0.045, 250=0.03504, 500=0.02702, 1000=0.02101 (USD); Packaging: Cut Tape (CT); Part Status: Active; Capacitance: 47pF; Operating Temperature: -55°C ~ 125°C; Features: -; Ratings: -; Applications: General Purpose; Mounting Type: Surface Mount, MLCC; Package / Case: 0402 (1005 Metric); Size / Dimension: 0.039" L x 0.020" W (1.00mm x 0.50mm); Height - Seated (Max): -; Thickness (Max): 0.022" (0.55mm); Lead Spacing: -; Lead Style: -; ComponentLink1URL: http://katalog.we-online.de/pbs/datasheet/885012005059.pdf; ComponentLink1Description: http://katalog.we-online.de/pbs/datasheet/885012005059.pdf
footprint C0402_1005 (Chip Capacitor, 2-Leads, Body 1.00x0.50mm, IPC Medium Density)
pins: 1, 2

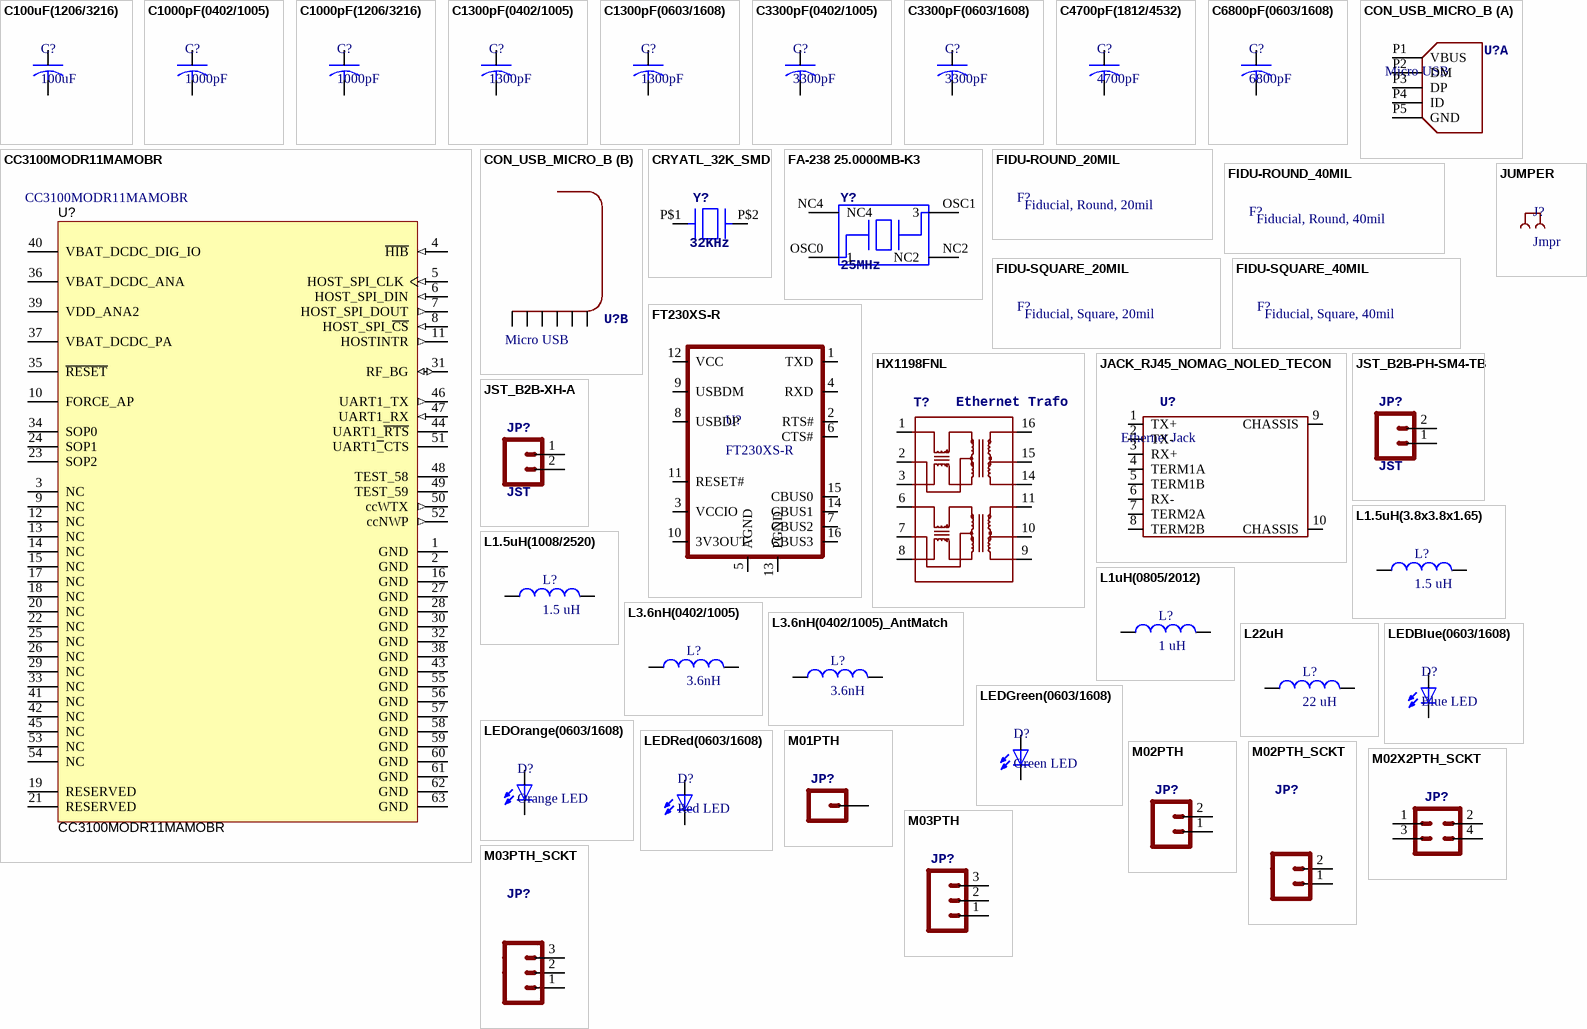
[diagram p1: symbols C100uF(1206/3216) to M03PTH_SCKT]

## C100uF(1206/3216)
designator C?, comment 100uF
100uF Capacitor; Manufacturer: Murata Electronics; Manufacturer Part Number: GRM31CD80J107ME39L; Tolerance: 20 %; Type: Voltage and Temperature Derating Recommended Product; Voltage Rating DC: 6.3 VDC; Dielectric: X7T; Product Status: New Product; Supplier 1: Mouser; Supplier Part Number 1: 81-GRM31CD80J107ME9L; RoHS: RoHS Compliant; Category: Multilayer Ceramic Capacitors MLCC - SMD/SMT; Stock 1: 13366; Pricing 1: 1=0.550, 10=0.314, 100=0.192, 1000=0.177, 2000=0.118, 10000=0.108, 24000=0.106, 50000=0.102, 100000=0.098 (USD); Capacitance: 100 uF; Height: 1.6 mm; Length: 3.2 mm; Package / Case: 1206 (3216 metric); Packaging: Reel; Product: General Type MLCCs; Series: GRM; Termination Style: SMD/SMT; Width: 1.6 mm; Brand: Murata Electronics; Case Code - in: 1206; Case Code - mm: 3216; Maximum Operating Temperature: + 105 C; Minimum Operating Temperature: - 55 C; RoHS - Mouser: Y; Minimum Order Quantity: 1; Reeling: True; ComponentLink1URL: http://www.murata.com/products/catalog/pdf/c02e.pdf; ComponentLink1Description: http://www.murata.com/products/catalog/pdf/c02e.pdf
footprint C1206_3216 (Chip Capacitor, 2-Leads, Body 3.30x1.60mm, IPC Medium Density)
pins: 1, 2

## C1000pF(0402/1005)
designator C?, comment 1000pF
1000pF Capacitor (1nF, 0.001uF); Manufacturer: Wurth Electronics Inc; Manufacturer Part Number: 885012005018; Tolerance: ±5%; Voltage - Rated: 10V; Temperature Coefficient: C0G, NP0; Supplier 1: Digi-Key; Supplier Part Number 1: 732-7434-1-ND; RoHS: RoHS Compliant; Category: Capacitors; Stock 1: 6130; Pricing 1: 1=0.13, 50=0.095, 100=0.068, 250=0.048, 500=0.04002, 1000=0.03201 (USD); Packaging: Cut Tape (CT); Part Status: Active; Capacitance: 1000pF; Operating Temperature: -55°C ~ 125°C; Features: -; Ratings: -; Applications: General Purpose; Mounting Type: Surface Mount, MLCC; Package / Case: 0402 (1005 Metric); Size / Dimension: 0.039" L x 0.020" W (1.00mm x 0.50mm); Height - Seated (Max): -; Thickness (Max): 0.022" (0.55mm); Lead Spacing: -; Lead Style: -; ComponentLink1URL: http://katalog.we-online.de/pbs/datasheet/885012005018.pdf; ComponentLink1Description: http://katalog.we-online.de/pbs/datasheet/885012005018.pdf
footprint C0402_1005 (Chip Capacitor, 2-Leads, Body 1.00x0.50mm, IPC Medium Density)
pins: 1, 2